# Altium schematic symbol library power_supplies_misc.SchLib: 3 symbols
Pins are listed as number, name and electrical type; pins without a type are passive.

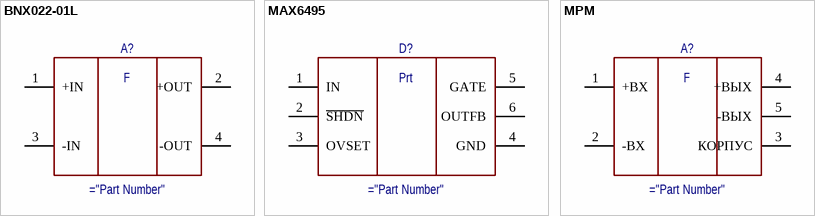
[diagram p0: symbols BNX022-01L to МРМ]

## BNX022-01L
designator A?
Filter
pins: 1 +IN, 2 +OUT, 3 -IN, 4 -OUT
text: F

## MAX6495
designator D?
Overvoltage Protection
pins: 1 IN, 2 ~{SHDN}, 3 OVSET, 4 GND, 5 GATE, 6 OUTFB
text: Prt

## МРМ
designator A?
Filter
pins: 1 +ВХ, 2 -ВХ, 3 КОРПУС, 4 +ВЫХ, 5 -ВЫХ, 6 hidden, 7 hidden
text: F